# Altium footprint library TemperatureController(betaV1.0).PcbLib: 31 footprints (part 1 of 2)
Each footprint in its own frame and in the unit in brackets; x right, y up, seen from the top. Pads: shape width x height; smd on the part's side, far side on the other; paste and mask are expansions set on the pad; w line width, h text height; cw(c..) or ccw(c..) is an arc to the next point about the centre after c.
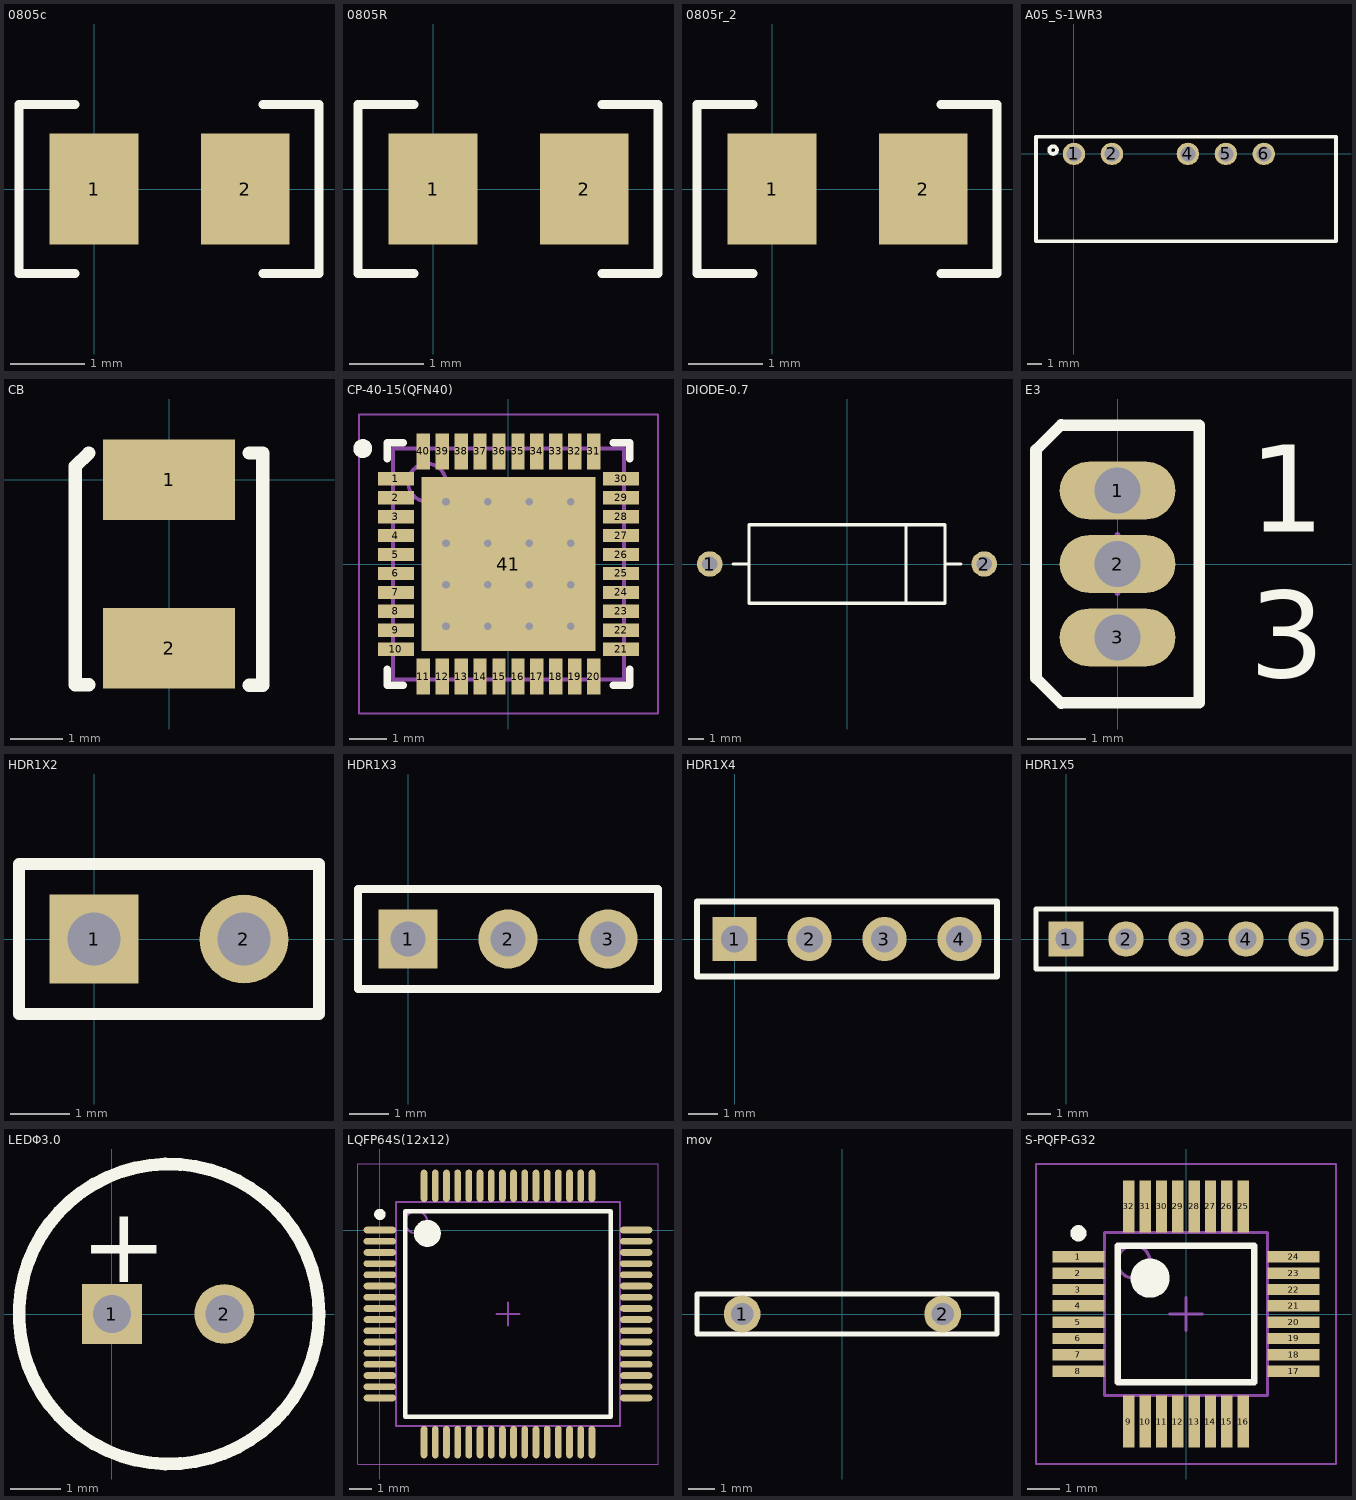
[diagram p0: the footprints below, top view; thin cyan lines are the x and y axes]

## 0805c [mm]
height 0.5
pads (2):
  rect 1.2x1.5 smd: 1(0,0) 2(2.048,0)
Top Overlay:
  lines w0.12: -0.254,-1.143 -1.016,-1.143 -1.016,1.143 -0.254,1.143 ; 2.286,-1.143 3.048,-1.143 3.048,1.143 2.286,1.143
3D body "CircuitWorks-CAPACITOR 0805.step": height 0.73, standoff -0.03, extent 0.016,-0.655 2.016,0.655

## 0805R [mm]
height 0.5
pads (2):
  rect 1.2x1.5 smd: 1(0,0) 2(2.048,0)
Top Overlay:
  lines w0.12: -0.254,-1.143 -1.016,-1.143 -1.016,1.143 -0.254,1.143 ; 2.286,-1.143 3.048,-1.143 3.048,1.143 2.286,1.143
3D body "User Library-RES_2013-0805.step": height 0.76, standoff 0, extent -0.134,-0.675 2.166,0.675

## 0805r_2 [mm]
pads (2):
  rect 1.2x1.5 smd: 1(0,0) 2(2.048,0)
Top Overlay:
  lines w0.12: -0.254,-1.143 -1.016,-1.143 -1.016,1.143 -0.254,1.143 ; 2.286,-1.143 3.048,-1.143 3.048,1.143 2.286,1.143
3D body "User Library-RES_2013-0805.step": height 0.76, standoff 0, extent -0.134,-0.675 2.166,0.675

## A05_S-1WR3 [mm]
height 10.16
pads (5):
  round 1.5 hole 1: 1(0,0) 2(2.54,0) 4(7.62,0) 5(10.16,0) 6(12.7,0)
Top Overlay:
  circle w0.254: c-1.397,0.254 r0.254
  lines w0.254: -2.54,-5.842 17.526,-5.842 17.526,1.143 -2.54,1.143 -2.54,-5.842
3D body "A05_S-1WR3.stp": height 10.16, standoff -4.1, extent -2.332,-5.286 17.318,0.714

## CB [mm] "Tantalum?Capacitor"
height 1.9
pads (2):
  rect 2.5x1.524 smd: 1(0,0) 2(0,-3.2)
Top Overlay:
  lines w0.254: -1.524,-3.891 -1.778,-3.891 -1.778,0.254 -1.524,0.508 ; 1.524,-3.905 1.778,-3.905 1.778,0.508 1.524,0.508
3D body "t494b226k010at.stp": height 1.57, standoff -0.53, extent -1.476,-3.501 1.524,0.199

## CP-40-15(QFN40) [mm] "QFN, 40-Leads, Body 6.00x6.00mm, Pitch 0.50mm, Thermal Pad 4.60x4.60mm, IPC Low Density"
height 1
pads (41):
  rect 0.95x0.35 smd: 1(-2.975,2.25) 2(-2.975,1.75) 3(-2.975,1.25) 4(-2.975,0.75) 5(-2.975,0.25) 6(-2.975,-0.25) 7(-2.975,-0.75) 8(-2.975,-1.25) 9(-2.975,-1.75) 10(-2.975,-2.25) 21(2.975,-2.25) 22(2.975,-1.75) 23(2.975,-1.25) 24(2.975,-0.75) 25(2.975,-0.25) 26(2.975,0.25) 27(2.975,0.75) 28(2.975,1.25) 29(2.975,1.75) 30(2.975,2.25)
  rect 0.35x0.95 smd: 11(-2.25,-2.975) 12(-1.75,-2.975) 13(-1.25,-2.975) 14(-0.75,-2.975) 15(-0.25,-2.975) 16(0.25,-2.975) 17(0.75,-2.975) 18(1.25,-2.975) 19(1.75,-2.975) 20(2.25,-2.975) 31(2.25,2.975) 32(1.75,2.975) 33(1.25,2.975) 34(0.75,2.975) 35(0.25,2.975) 36(-0.25,2.975) 37(-0.75,2.975) 38(-1.25,2.975) 39(-1.75,2.975) 40(-2.25,2.975)
  rect 4.6x4.6 smd: 41(0,0)
via 1.65,-1.65 diameter 0.5 hole 0.2
via 0.55,-1.65 diameter 0.5 hole 0.2
via -0.55,-1.65 diameter 0.5 hole 0.2
via -1.65,-1.65 diameter 0.5 hole 0.2
via 1.65,-0.55 diameter 0.5 hole 0.2
via 0.55,-0.55 diameter 0.5 hole 0.2
via -0.55,-0.55 diameter 0.5 hole 0.2
via -1.65,-0.55 diameter 0.5 hole 0.2
via 1.65,0.55 diameter 0.5 hole 0.2
via 0.55,0.55 diameter 0.5 hole 0.2
via -0.55,0.55 diameter 0.5 hole 0.2
via -1.65,0.55 diameter 0.5 hole 0.2
via 1.65,1.65 diameter 0.5 hole 0.2
via 0.55,1.65 diameter 0.5 hole 0.2
via -0.55,1.65 diameter 0.5 hole 0.2
via -1.65,1.65 diameter 0.5 hole 0.2
Top Overlay:
  circle w0.25: c-3.85,3.05 r0.125
  lines w0.2: -3.2,-2.775 -3.2,-3.2 -2.775,-3.2 ; -3.2,2.775 -3.2,3.2 -2.775,3.2 ; 2.775,-3.2 3.2,-3.2 3.2,-2.775 ; 2.775,3.2 3.2,3.2 3.2,2.775
Mechanical 13:
  circle w0.1: c-2.15,2.15 r0.5
  lines w0.1: -3.05,-3.05 3.05,-3.05 3.05,3.05 -3.05,3.05 -3.05,-3.05
Mechanical 15:
  lines w0.05: -3.95,-3.95 3.95,-3.95 3.95,3.95 -3.95,3.95 -3.95,-3.95
  lines w0.1: -0.5,0 0.5,0 ; 0,-0.5 0,0.5
3D body "CP-40-15(QFN40).step": height 1, standoff 0, extent -3.1,-3.1 3.1,3.1

## DIODE-0.7 [mm] "Diode, Thru-Hole; 2 Leads; 0.7 in Pin Spacing"
height 5.08
pads (2):
  round 1.65 hole 1: 1(-8.89,0) 2(8.89,0)
Top Overlay:
  lines w0.2: -7.366,0 -6.35,0 ; 3.81,-2.54 3.81,2.54 ; 6.35,0 7.366,0 ; -6.35,-2.54 6.35,-2.54 6.35,2.54 -6.35,2.54 -6.35,-2.54

## E3 [mm] "TO, Flat Index; 3 In-Line, Axial Leads; Body Dia. 4.6mm; Lead Dia. 0.5 mm (max)"
height 4.01
pads (3):
  oval 2x1 hole 0.8: 1(0,1.27) 2(0,0) 3(0,-1.27)
Top Overlay:
  lines w0.2: -0.97,-2.41 -1.41,-1.97 -1.41,1.97 -0.97,2.41 ; -0.97,-2.4 1.41,-2.4 1.41,2.4 -0.97,2.4
  text "1" at 2.275,0.555 h1.5
  text "3" at 2.275,-1.963 h1.5
Mechanical 15:
  lines w0.1: -0.5,0 0.5,0 ; 0,-0.5 0,0.5

## HDR1X2 [mm] "Connector; Header; 2 Position"
pads (2):
  rect 1.5x1.5 hole 0.9: 1(0,0)
  round 1.5 hole 0.9: 2(2.54,0)
Top Overlay:
  lines w0.2: -1.27,-1.27 3.81,-1.27 3.81,1.27 -1.27,1.27 -1.27,-1.27

## HDR1X3 [mm] "Connector; Header; 3 Position"
pads (3):
  rect 1.5x1.5 hole 0.9: 1(0,0)
  round 1.5 hole 0.9: 2(2.54,0) 3(5.08,0)
Top Overlay:
  lines w0.2: -1.27,-1.27 6.35,-1.27 6.35,1.27 -1.27,1.27 -1.27,-1.27

## HDR1X4 [mm] "Connector; Header; 4 Position"
pads (4):
  rect 1.5x1.5 hole 0.9: 1(0,0)
  round 1.5 hole 0.9: 2(2.54,0) 3(5.08,0) 4(7.62,0)
Top Overlay:
  lines w0.2: -1.27,-1.27 8.89,-1.27 8.89,1.27 -1.27,1.27 -1.27,-1.27

## HDR1X5 [mm] "Connector; Header; 5 Position"
pads (5):
  rect 1.5x1.5 hole 0.9: 1(0,0)
  round 1.5 hole 0.9: 2(2.54,0) 3(5.08,0) 4(7.62,0) 5(10.16,0)
Top Overlay:
  lines w0.2: -1.27,-1.27 11.43,-1.27 11.43,1.27 -1.27,1.27 -1.27,-1.27

## LEDΦ3.0 [mm]
height 5
pads (2):
  rect 1.2x1.2 hole 0.762: 1(0,0)
  round 1.2 hole 0.762: 2(2.25,0)
Top Overlay:
  circle w0.254: c1.143,0 r3
  text "+" at -0.635,0.635 h1.52
3D body "everlight-3MM-LED-YELLOW.step": height 4.64, standoff -7.93, extent -0.637,-1.9 2.789,1.9

## LQFP64S(12x12) [mm] "TSQFP, 64-Leads, Body 10.00x10.00mm, Pitch 0.50mm, IPC Medium Density"
height 1.6
pads (64):
  oval 1.45x0.3 smd: 1(0,0) 2(0,-0.5) 3(0,-1) 4(0,-1.5) 5(0,-2) 6(0,-2.5) 7(0,-3) 8(0,-3.5) 9(0,-4) 10(0,-4.5) 11(0,-5) 12(0,-5.5) 13(0,-6) 14(0,-6.5) 15(0,-7) 16(0,-7.5) 33(11.45,-7.5) 34(11.45,-7) 35(11.45,-6.5) 36(11.45,-6) 37(11.45,-5.5) 38(11.45,-5) 39(11.45,-4.5) 40(11.45,-4) 41(11.45,-3.5) 42(11.45,-3) 43(11.45,-2.5) 44(11.45,-2) 45(11.45,-1.5) 46(11.45,-1) 47(11.45,-0.5) 48(11.45,0)
  oval 0.3x1.45 smd: 17(1.975,-9.475) 18(2.475,-9.475) 19(2.975,-9.475) 20(3.475,-9.475) 21(3.975,-9.475) 22(4.475,-9.475) 23(4.975,-9.475) 24(5.475,-9.475) 25(5.975,-9.475) 26(6.475,-9.475) 27(6.975,-9.475) 28(7.475,-9.475) 29(7.975,-9.475) 30(8.475,-9.475) 31(8.975,-9.475) 32(9.475,-9.475) 49(9.475,1.975) 50(8.975,1.975) 51(8.475,1.975) 52(7.975,1.975) 53(7.475,1.975) 54(6.975,1.975) 55(6.475,1.975) 56(5.975,1.975) 57(5.475,1.975) 58(4.975,1.975) 59(4.475,1.975) 60(3.975,1.975) 61(3.475,1.975) 62(2.975,1.975) 63(2.475,1.975) 64(1.975,1.975)
Top Overlay:
  circle w0.6: c2.125,-0.15 r0.3
  circle w0.25: c0,0.7 r0.125
  lines w0.2: 1.125,-8.35 10.325,-8.35 10.325,0.85 1.125,0.85 1.125,-8.35
Mechanical 13:
  circle w0.1: c1.625,0.35 r0.5
  lines w0.1: 0.725,-8.75 10.725,-8.75 10.725,1.25 0.725,1.25 0.725,-8.75
Mechanical 15:
  lines w0.05: -0.975,-10.45 12.425,-10.45 12.425,2.95 -0.975,2.95 -0.975,-10.45
  lines w0.1: 5.225,-3.75 6.225,-3.75 ; 5.725,-4.25 5.725,-3.25
3D body: height 1.6, standoff 0.05, extent 0.725,-8.75 10.725,1.25

## mov [mm] "Axial Device, Thru-Hole; 2 Leads; 0.3 in Pin Spacing"
height 1.524
pads (2):
  round 1.4 hole 0.85: 1(-3.81,0) 2(3.81,0)
Top Overlay:
  lines w0.2: -5.528,-0.762 -5.528,0.762 5.875,0.762 5.875,-0.762 -5.528,-0.762
3D body "User Library-final MOV7,5.step": height 18.5, standoff 0, extent -5.5,-0.9 5.801,0.95

## S-PQFP-G32 [mm] "TSQFP, 32-Leads, Body 5.00x5.00mm, Pitch 0.50mm, IPC Low Density"
height 1.2
pads (32):
  rect 1.6x0.35 smd: 1(-3.3,1.75) 2(-3.3,1.25) 3(-3.3,0.75) 4(-3.3,0.25) 5(-3.3,-0.25) 6(-3.3,-0.75) 7(-3.3,-1.25) 8(-3.3,-1.75) 17(3.3,-1.75) 18(3.3,-1.25) 19(3.3,-0.75) 20(3.3,-0.25) 21(3.3,0.25) 22(3.3,0.75) 23(3.3,1.25) 24(3.3,1.75)
  rect 0.35x1.6 smd: 9(-1.75,-3.3) 10(-1.25,-3.3) 11(-0.75,-3.3) 12(-0.25,-3.3) 13(0.25,-3.3) 14(0.75,-3.3) 15(1.25,-3.3) 16(1.75,-3.3) 25(1.75,3.3) 26(1.25,3.3) 27(0.75,3.3) 28(0.25,3.3) 29(-0.25,3.3) 30(-0.75,3.3) 31(-1.25,3.3) 32(-1.75,3.3)
Top Overlay:
  circle w0.25: c-3.3,2.475 r0.125
  circle w0.6: c-1.1,1.1 r0.3
  lines w0.2: -2.1,-2.1 -2.1,2.1 2.1,2.1 2.1,-2.1 -2.1,-2.1
Mechanical 13:
  circle w0.1: c-1.6,1.6 r0.5
  lines w0.1: -2.5,-2.5 -2.5,2.5 2.5,2.5 2.5,-2.5 -2.5,-2.5
Mechanical 15:
  lines w0.05: -4.6,-4.6 -4.6,4.6 4.6,4.6 4.6,-4.6 -4.6,-4.6
  lines w0.1: -0.5,0 0.5,0 ; 0,-0.5 0,0.5
3D body "S-PQFP-G32.step": height 1.2, standoff 0, extent -3.5,-3.5 3.5,3.5